# Altium footprint library PCB - LEADED - SOIC - AD SOIC-8EP RD-8-2.PcbLib: 1 footprints
Each footprint in its own frame and in the unit in brackets; x right, y up, seen from the top. Pads: shape width x height; smd on the part's side, far side on the other; paste and mask are expansions set on the pad; w line width, h text height; cw(c..) or ccw(c..) is an arc to the next point about the centre after c.
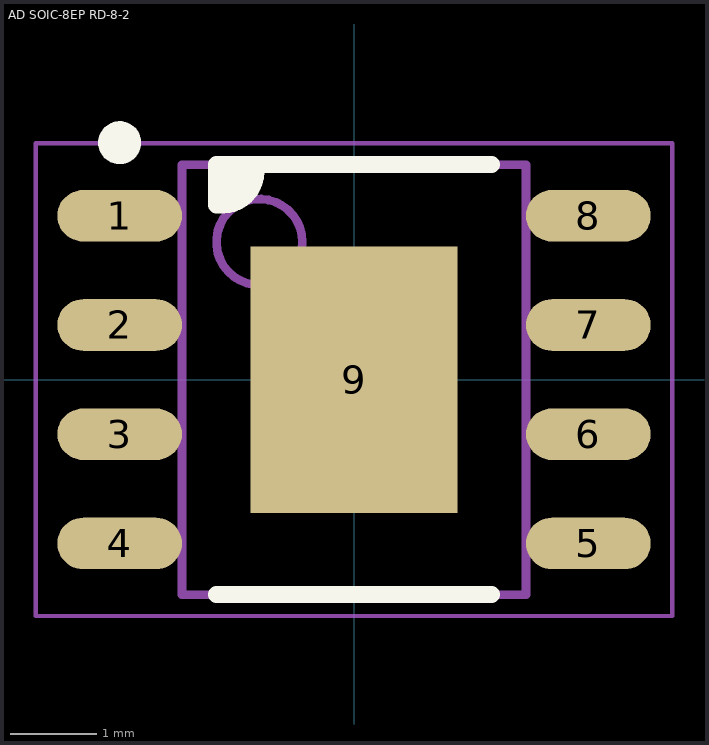
[diagram p0: the footprint, top view; thin cyan lines are the x and y axes]

## AD SOIC-8EP RD-8-2 [mm] "SOIC, 8-Leads, Body 4.90x3.90mm, Pitch 1.27mm, Thermal Pad 3.10x2.41mm, IPC Medium Density"
height 1.75
pads (9):
  oval 1.45x0.6 smd: 1(-2.725,1.905) 2(-2.725,0.635) 3(-2.725,-0.635) 4(-2.725,-1.905) 5(2.725,-1.905) 6(2.725,-0.635) 7(2.725,0.635) 8(2.725,1.905)
  rect 2.41x3.1 smd: 9(0,0)
Top Overlay:
  circle w0.25: c-2.725,2.755 r0.125
  region: -1.143,2.413 -1.524,2.413 -1.524,2.108 -1.524,2.032 -1.27,2.159
  lines w0.2: -1.6,-2.5 1.6,-2.5 ; -1.143,2.413 cw(c-1.524,2.413) -1.524,2.032 -1.6,2.032 -1.6,2.5 1.6,2.5
Mechanical 13:
  circle w0.1: c-1.1,1.6 r0.5
  lines w0.1: -2,-2.5 -2,2.5 2,2.5 2,-2.5 -2,-2.5
Mechanical 15:
  lines w0.05: -3.7,-2.75 -3.7,2.75 3.7,2.75 3.7,-2.75 -3.7,-2.75
  lines w0.1: -0.5,0 0.5,0 ; 0,-0.5 0,0.5
3D body "AD SOIC-8EP RD-8-2.step": height 1.75, standoff 0, extent -3,-2.5 3,2.5